# Altium footprint library ADA4096.PcbLib: 1 footprints
Each footprint in its own frame and in the unit in brackets; x right, y up, seen from the top. Pads: shape width x height; smd on the part's side, far side on the other; paste and mask are expansions set on the pad; w line width, h text height; cw(c..) or ccw(c..) is an arc to the next point about the centre after c.
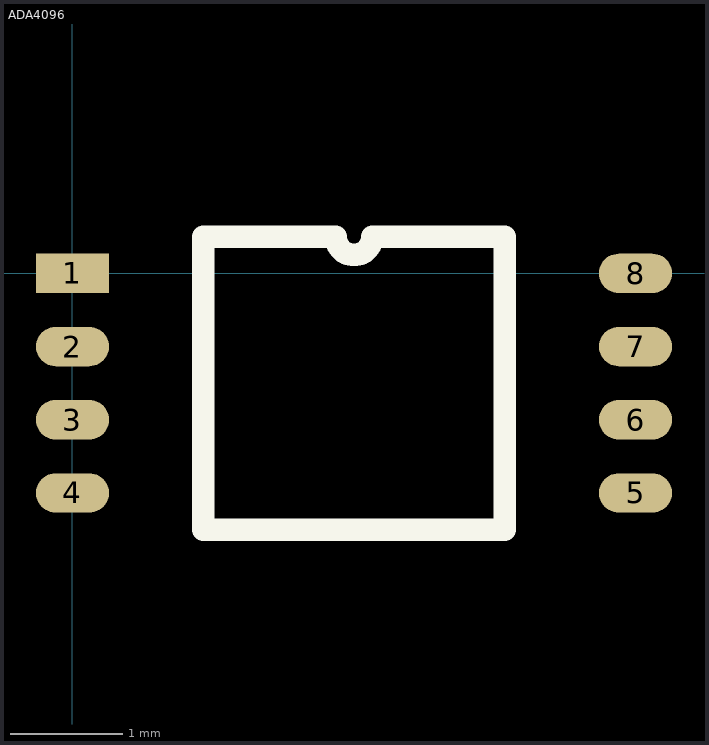
[diagram p0: the footprint, top view; thin cyan lines are the x and y axes]

## ADA4096 [mm]
pads (8):
  rect 0.65x0.35 smd: 1(0,0)
  oval 0.65x0.35 smd: 2(0,-0.65) 3(0,-1.3) 4(0,-1.95) 5(5,-1.95) 6(5,-1.3) 7(5,-0.65) 8(5,0)
Top Overlay:
  lines w0.2: 1.16,-2.275 3.84,-2.275 3.84,0.325 2.662,0.325 cw(c2.5,0.325) 2.338,0.325 1.16,0.325 1.16,-2.275